# EAGLE library part BME280 (library Sensors > Temperature Sensors)
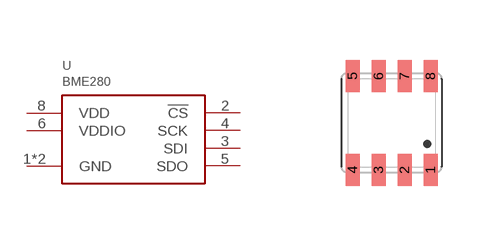
[diagram p1: symbol with the pads of BME280; footprint BME280]

Designator prefix U

## BME280  [BME280]
1  GND  pwr
2  !CS  in
3  SDI
4  SCK
5  SDO  in
6  VDDIO  pwr
7  GND  pwr
8  VDD  pwr

## Footprint BME280 (pad centres in mm)
2.5 mm x 2.5 mm x 0.93 mm metal lid LGA
smd 0.35 x 0.8: 1 0.975,-1.175; 2 0.325,-1.175; 3 -0.325,-1.175; 4 -0.975,-1.175; 5 -0.975,1.175; 6 -0.325,1.175; 7 0.325,1.175; 8 0.975,1.175